# EAGLE library part MC33364DG (library ON_Semiconductor_By_element14_Batch_1)
Critical Conduction GreenLinet SMPS Controller
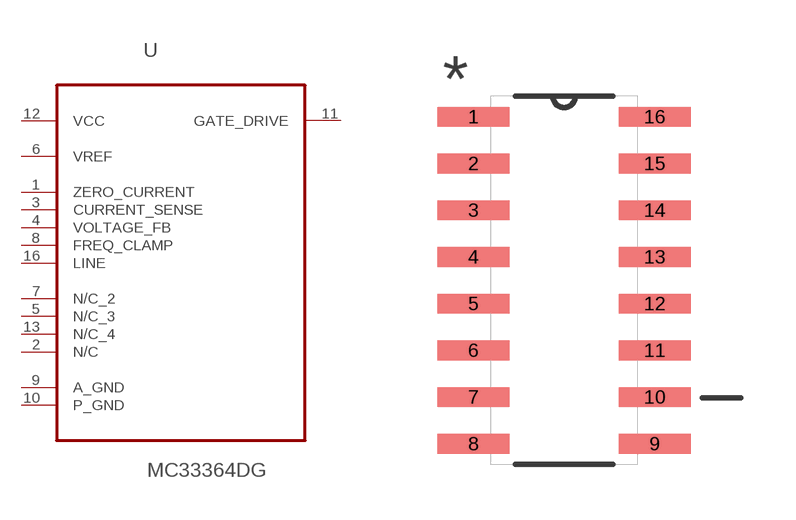
[diagram p380: symbol with the pads of SOIC127P600X175-16N; footprint SOIC127P600X175-16N]

Designator prefix U

## MC33364DG (MPN: MC33364DG; OC_FARNELL: -; OC_NEWARK: 42K0624; PACKAGE: SOIC-16; SUPPLIER: ON SEMICONDUCTOR)  [SOIC127P600X175-16N]
1  ZERO_CURRENT  in
2  N/C  nc
3  CURRENT_SENSE  in
4  VOLTAGE_FB  pwr
5  N/C_3  nc
6  VREF  in
7  N/C_2  nc
8  FREQ_CLAMP  in
9  A_GND  pas
10  P_GND  pas
11  GATE_DRIVE  out
12  VCC  pwr
13  N/C_4  nc
16  LINE  in

## Footprint SOIC127P600X175-16N (pad centres in mm)
smd 1.956 x 0.533: 1 -2.464,4.445; 2 -2.464,3.175; 3 -2.464,1.905; 4 -2.464,0.635; 5 -2.464,-0.635; 6 -2.464,-1.905; 7 -2.464,-3.175; 8 -2.464,-4.445; 9 2.464,-4.445; 10 2.464,-3.175; 11 2.464,-1.905; 12 2.464,-0.635; 13 2.464,0.635; 14 2.464,1.905; 15 2.464,3.175; 16 2.464,4.445